# Altium schematic symbol library B82442T1104K050.SchLib: 1 symbol
Pins are listed as number, name and electrical type; pins without a type are passive.

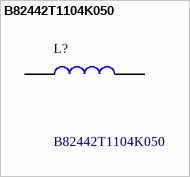
[diagram p0: symbol B82442T1104K050]

## B82442T1104K050
designator L?
EPCOS SIMID Series Type 2220 Wire-wound SMD Inductor with a Ferrite Core, 100 uH Wire-Wound 510mA Idc Q:20; Manufacturer_Name: TDK; Geometry.Height: 5.3mm; Manufacturer_Part_Number: B82442T1104K050; Mouser Part Number: 871-B82442T1104K050; Mouser Price/Stock: https://www.mouser.co.uk/ProductDetail/EPCOS-TDK/B82442T1104K050?qs=x3Z3TaiycduVzHqGgYB07A%3D%3D; Arrow Part Number: B82442T1104K050; Arrow Price/Stock: https://www.arrow.com/en/products/b82442t1104k050/epcos-tdk; Datasheet Link: https://product.tdk.com/system/files/dam/doc/product/inductor/inductor/smd/data_sheet/30/db/ind_2008/b82442t.pdf
footprint INDPM5650X530N
pins: 1, 2